# Altium footprint library D 电源模块.PcbLib: 107 footprints (part 7 of 7)
Each footprint in its own frame and in the unit in brackets; x right, y up, seen from the top. Pads: shape width x height; smd on the part's side, far side on the other; paste and mask are expansions set on the pad; w line width, h text height; cw(c..) or ccw(c..) is an arc to the next point about the centre after c.
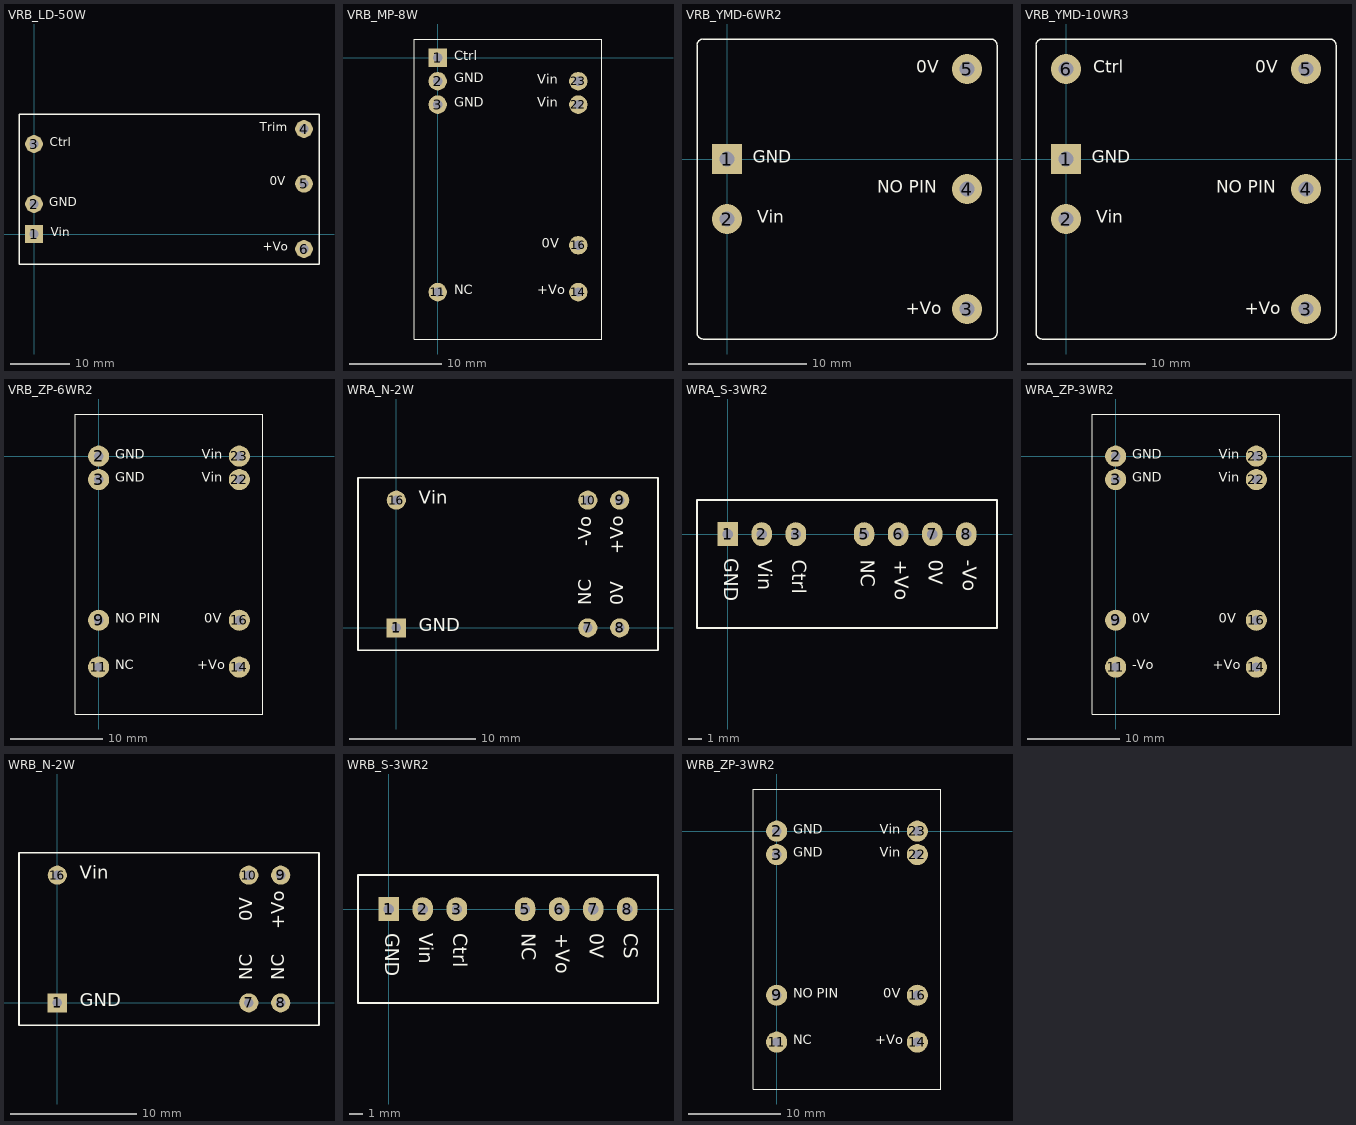
[diagram p6: the footprints below, top view; thin cyan lines are the x and y axes]

## VRB_LD-50W [mm] "金升阳DC-DC 50W 2：1宽输入/隔离稳压/单路输出电源"
height 11.8
pads (6):
  rect 3x3 hole 1.5: 1(0,0)
  round 3 hole 1.5: 2(0,5.08) 3(0,15.24) 4(45.72,17.78) 5(45.72,8.509) 6(45.72,-2.54)
Top Overlay:
  lines w0.254: -2.54,-5.08 -2.54,20.32 48.26,20.32 48.26,-5.08 -2.54,-5.08
  text "Ctrl" at 2.667,14.351 h2.54
  text "GND" at 2.54,4.191 h2.54
  text "Vin" at 2.794,-0.889 h2.54
  text "Trim" at 38.227,16.891 h2.54
  text "0V" at 39.878,7.747 h2.54
  text "+Vo" at 38.735,-3.302 h2.54
Bottom Overlay:
  text "Ctrl" at 5.969,14.351 h2.54
  text "GND" at 7.239,4.191 h2.54
  text "Vin" at 5.969,-0.889 h2.54
  text "Trim" at 42.672,16.891 h2.54
  text "0V" at 42.545,7.747 h2.54
  text "+Vo" at 42.545,-3.302 h2.54

## VRB_MP-8W [mm] "金升阳DC-DC 8W 2：1宽输入/隔离稳压/单路输出电源"
height 10.5
pads (8):
  rect 2x2 hole 0.991: 1(0,0)
  round 2 hole 0.991: 2(0,-2.54) 3(0,-5.08) 11(0,-25.4) 14(15.24,-25.4) 16(15.24,-20.32) 22(15.24,-5.08) 23(15.24,-2.54)
Top Overlay:
  lines w0.127: -2.54,-30.48 17.78,-30.48 17.78,2.032 -2.54,2.032 -2.54,-30.48
  text "+Vo" at 10.795,-26.035 h1.78
  text "0V" at 11.303,-20.955 h1.78
  text "Vin" at 10.795,-5.715 h1.78
  text "Vin" at 10.795,-3.175 h1.78
  text "NC" at 1.778,-26.035 h1.78
  text "GND" at 1.778,-5.715 h1.78
  text "GND" at 1.778,-3.048 h1.78
  text "Ctrl" at 1.778,-0.635 h1.78
Bottom Overlay:
  text "0V" at 13.208,-20.955 h1.78
  text "+Vo" at 13.716,-26.035 h1.78
  text "NC" at 3.937,-26.035 h1.78
  text "Vin" at 13.081,-3.175 h1.78
  text "Vin" at 13.081,-5.715 h1.78
  text "Ctrl" at 4.191,-0.635 h1.78
  text "GND" at 5.207,-3.048 h1.78
  text "GND" at 5.207,-5.715 h1.78

## VRB_YMD-6WR2 [mm] "金升阳DC-DC 6W 2：1宽输入/隔离稳压/单路输出电源"
height 11.7
pads (5):
  rect 2.54x2.54 hole 1.3: 1(0,0)
  round 2.54 hole 1.3: 2(0,-5.08) 3(20.32,-12.7) 4(20.32,-2.54) 5(20.32,7.62)
Top Overlay:
  lines w0.127: -2.54,-14.732 ccw(c-2.032,-14.732) -2.032,-15.24 22.352,-15.24 ccw(c22.352,-14.732) 22.86,-14.732 22.86,9.652 ccw(c22.352,9.652) 22.352,10.16 -2.032,10.16 ccw(c-2.032,9.652) -2.54,9.652 -2.54,-14.732
  text "GND" at 2.159,-0.635 h1.78
  text "Vin" at 2.54,-5.715 h1.78
  text "0V" at 16.002,6.985 h1.78
  text "NO PIN" at 12.7,-3.175 h1.78
  text "+Vo" at 15.113,-13.462 h1.78
Bottom Overlay:
  text "GND" at 5.461,-0.635 h1.78
  text "Vin" at 4.699,-5.715 h1.78
  text "0V" at 17.653,6.985 h1.78
  text "NO PIN" at 17.907,-3.175 h1.78
  text "+Vo" at 17.907,-13.462 h1.78

## VRB_YMD-10WR3 [mm]
height 11.7
pads (6):
  rect 2.54x2.54 hole 1.3: 1(0,0)
  round 2.54 hole 1.3: 2(0,-5.08) 3(20.32,-12.7) 4(20.32,-2.54) 5(20.32,7.62) 6(0,7.62)
Top Overlay:
  lines w0.127: -2.54,-14.732 ccw(c-2.032,-14.732) -2.032,-15.24 22.352,-15.24 ccw(c22.352,-14.732) 22.86,-14.732 22.86,9.652 ccw(c22.352,9.652) 22.352,10.16 -2.032,10.16 ccw(c-2.032,9.652) -2.54,9.652 -2.54,-14.732
  text "+Vo" at 15.113,-13.462 h1.78
  text "NO PIN" at 12.7,-3.175 h1.78
  text "0V" at 16.002,6.985 h1.78
  text "Vin" at 2.54,-5.715 h1.78
  text "GND" at 2.159,-0.635 h1.78
  text "Ctrl" at 2.286,6.985 h1.78
Bottom Overlay:
  text "+Vo" at 17.907,-13.462 h1.78
  text "NO PIN" at 17.907,-3.175 h1.78
  text "0V" at 17.653,6.985 h1.78
  text "Vin" at 4.699,-5.715 h1.78
  text "GND" at 5.461,-0.635 h1.78
  text "Ctrl" at 4.826,6.985 h1.78

## VRB_ZP-6WR2 [mil] "金升阳DC-DC 6W 2：1宽输入/隔离稳压/单路输出电源"
height 425.2
pads (8):
  round 90 hole 39: 2(0,0) 3(0,-100) 9(0,-700) 11(0,-900) 14(600,-900) 16(600,-700) 22(600,-100) 23(600,0)
Top Overlay:
  lines w5: -100,-1100 -100,180 700,180 700,-1100 -100,-1100
  text "NC" at 70,-925 h70
  text "NO PIN" at 70,-725 h70
  text "Vin" at 440,-125 h70
  text "Vin" at 440,-25 h70
  text "GND" at 70,-125 h70
  text "GND" at 70,-25 h70
  text "0V" at 450,-725 h70
  text "+Vo" at 420,-925 h70
Bottom Overlay:
  text "+Vo" at 525,-925 h70
  text "0V" at 525,-725 h70
  text "NC" at 150,-925 h70
  text "NO PIN" at 275,-720 h70
  text "Vin" at 525,-125 h70
  text "Vin" at 525,-25 h70
  text "GND" at 205,-125 h70
  text "GND" at 205,-25 h70

## WRA_N-2W [mil] "金升阳DC-DC 2W 2：1宽输入/隔离稳压/正负双路输出超小型DIP封装电源"
height 299.21
pads (6):
  rect 60x60 hole 30: 1(0,0)
  round 60 hole 30: 7(600,0) 8(700,0) 9(700,400) 10(600,400) 16(0,400)
Top Overlay:
  lines w5: -120,-70 -120,470 820,470 820,-70 -120,-70
  text "GND" at 70,-25 h70
  text "Vin" at 70,375 h70
  text "NC" at 625,70 h70
  text "0V" at 725,70 h70
  text "-Vo" at 625,255 h70
  text "+Vo" at 725,230 h70
Bottom Overlay:
  text "Vin" at 170,375 h70
  text "GND" at 205,-25 h70
  text "+Vo" at 680,230 h70
  text "-Vo" at 580,255 h70
  text "0V" at 680,70 h70
  text "NC" at 580,70 h70

## WRA_S-3WR2 [mil] "金升阳DC-DC 3W 2：1宽输入/隔离稳压/正负双路输出电源"
height 472.44
pads (7):
  rect 60x70 hole 30: 1(0,0)
  oval 60x70 hole 30: 2(100,0) 3(200,0) 5(400,0) 6(500,0) 7(600,0) 8(700,0)
Top Overlay:
  lines w5: -90,-275 -90,100 790,100 790,-275 -90,-275
  text "-Vo" at 675,-75 h70
  text "0V" at 575,-75 h70
  text "+Vo" at 475,-75 h70
  text "NC" at 375,-75 h70
  text "Ctrl" at 175,-75 h70
  text "Vin" at 75,-75 h70
  text "GND" at -25,-70 h70
Bottom Overlay:
  text "-Vo" at 720,-75 h70
  text "0V" at 620,-75 h70
  text "+Vo" at 520,-75 h70
  text "NC" at 420,-75 h70
  text "Ctrl" at 220,-75 h70
  text "Vin" at 120,-75 h70
  text "GND" at 20,-70 h70

## WRA_ZP-3WR2 [mil] "金升阳DC-DC 3W 2：1宽输入/隔离稳压/正负双路输出电源"
height 425.2
pads (8):
  round 90 hole 39: 2(0,0) 3(0,-100) 9(0,-700) 11(0,-900) 14(600,-900) 16(600,-700) 22(600,-100) 23(600,0)
Top Overlay:
  lines w5: -100,-1100 700,-1100 700,180 -100,180 -100,-1100
  text "GND" at 70,-25 h70
  text "GND" at 70,-125 h70
  text "Vin" at 440,-25 h70
  text "Vin" at 440,-125 h70
  text "0V" at 70,-725 h70
  text "-Vo" at 70,-925 h70
  text "0V" at 440,-725 h70
  text "+Vo" at 415,-925 h70
Bottom Overlay:
  text "GND" at 205,-25 h70
  text "GND" at 205,-125 h70
  text "Vin" at 530,-25 h70
  text "Vin" at 530,-125 h70
  text "0V" at 145,-725 h70
  text "-Vo" at 160,-925 h70
  text "0V" at 515,-725 h70
  text "+Vo" at 525,-925 h70

## WRB_N-2W [mil] "金升阳DC-DC 3W 2：1宽输入/隔离稳压/单路输出电源超小型DIP封装电源"
height 299.21
pads (6):
  rect 60x60 hole 30: 1(0,0)
  round 60 hole 30: 7(600,0) 8(700,0) 9(700,400) 10(600,400) 16(0,400)
Top Overlay:
  lines w5: -120,-70 -120,470 820,470 820,-70 -120,-70
  text "GND" at 70,-25 h70
  text "Vin" at 70,375 h70
  text "NC" at 625,70 h70
  text "NC" at 725,70 h70
  text "0V" at 625,255 h70
  text "+Vo" at 725,230 h70
Bottom Overlay:
  text "Vin" at 170,375 h70
  text "GND" at 205,-25 h70
  text "+Vo" at 680,230 h70
  text "0V" at 580,255 h70
  text "NC" at 680,70 h70
  text "NC" at 580,70 h70

## WRB_S-3WR2 [mil] "金升阳DC-DC 3W 2：1宽输入/隔离稳压/单路输出电源"
height 472.44
pads (7):
  rect 60x70 hole 30: 1(0,0)
  oval 60x70 hole 30: 2(100,0) 3(200,0) 5(400,0) 6(500,0) 7(600,0) 8(700,0)
Top Overlay:
  lines w5: -90,-275 -90,100 790,100 790,-275 -90,-275
  text "CS" at 675,-70 h70
  text "0V" at 575,-70 h70
  text "+Vo" at 475,-70 h70
  text "NC" at 375,-70 h70
  text "Ctrl" at 175,-70 h70
  text "Vin" at 75,-70 h70
  text "GND" at -25,-70 h70
Bottom Overlay:
  text "CS" at 675,-155 h70
  text "0V" at 575,-145 h70
  text "+Vo" at 475,-175 h70
  text "NC" at 375,-155 h70
  text "Ctrl" at 175,-165 h70
  text "Vin" at 75,-160 h70
  text "GND" at -25,-205 h70

## WRB_ZP-3WR2 [mil] "金升阳DC-DC 3W 2：1宽输入/隔离稳压/单路输出电源"
height 425.2
pads (8):
  round 90 hole 39: 2(0,0) 3(0,-100) 9(0,-700) 11(0,-900) 14(600,-900) 16(600,-700) 22(600,-100) 23(600,0)
Top Overlay:
  lines w5: -100,-1100 700,-1100 700,180 -100,180 -100,-1100
  text "+Vo" at 420,-925 h70
  text "0V" at 455,-725 h70
  text "GND" at 70,-25 h70
  text "GND" at 70,-125 h70
  text "Vin" at 440,-25 h70
  text "Vin" at 440,-125 h70
  text "NO PIN" at 70,-725 h70
  text "NC" at 70,-925 h70
Bottom Overlay:
  text "GND" at 200,-25 h70
  text "GND" at 205,-125 h70
  text "Vin" at 525,-25 h70
  text "Vin" at 525,-125 h70
  text "NO PIN" at 275,-720 h70
  text "NC" at 150,-925 h70
  text "0V" at 525,-725 h70
  text "+Vo" at 525,-925 h70